# Altium schematic symbol library SCH - SWITCH - E-SWITCH EG2208.SCHLIB: 1 symbol
Pins are listed as number, name and electrical type; pins without a type are passive.

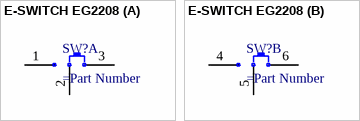
[diagram p0: symbol E-SWITCH EG2208]

## E-SWITCH EG2208
designator SW?
part A pins: 1, 2 COM, 3
part B pins: 4, 5 COM, 6